# Altium schematic symbol library 稳压器件.SCHLIB: 17 symbols
Pins are listed as number, name and electrical type; pins without a type are passive.

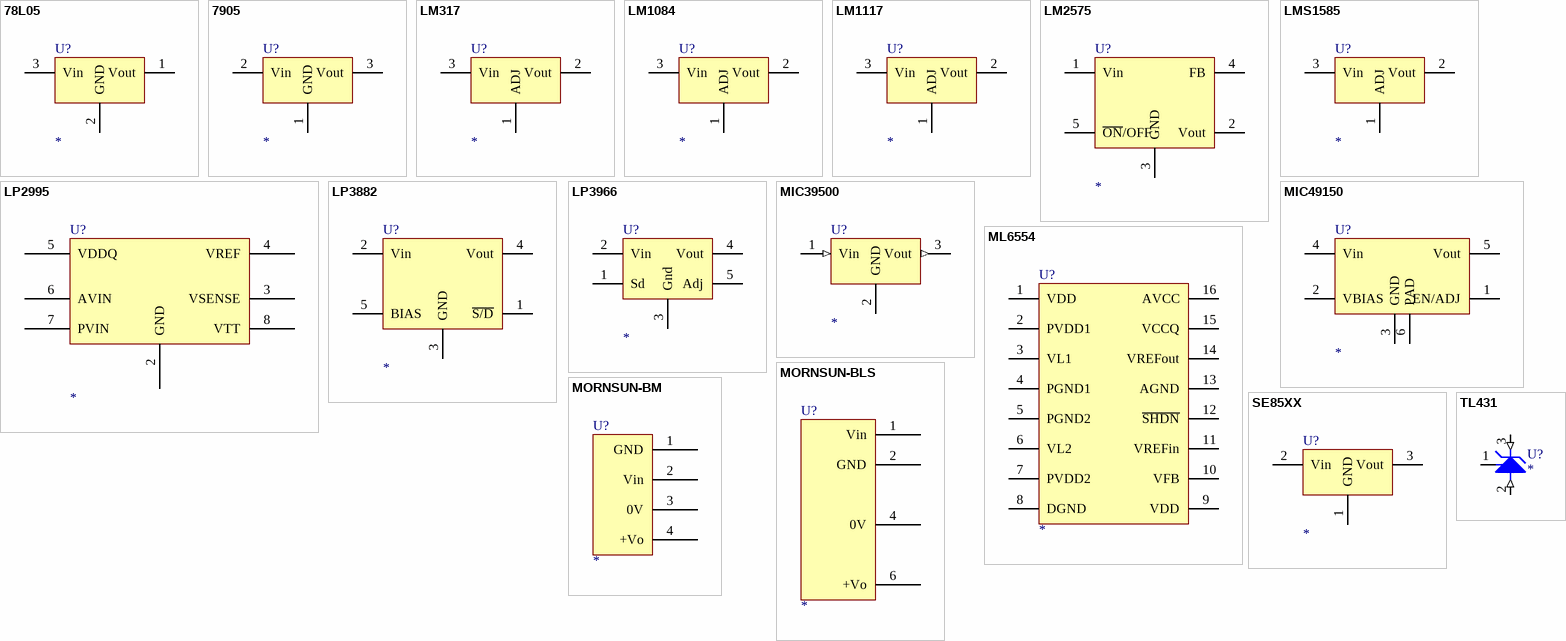
[diagram p0: symbols 78L05 to TL431]

## 78L05
designator U?
3-Terminal Positive Voltage Regulator/100mA MAX
footprint TO-92
simulation model 78L05 (SUBCKT)
pins: 1 Vout, 2 GND, 3 Vin

## 7905
designator U?
3-Terminal Positive Voltage Regulator/79XX1.5A MAX/79LXX 100mA MAX
footprint TO-220
footprint A30
footprint B30
footprint TO-92
pins: 1 GND, 2 Vin, 3 Vout

## LM317
designator U?
3-Terminal Adjustable Positive Voltage Regulator
footprint SOT-223
footprint TO-220
footprint TO-263
simulation model LM317 (SUBCKT)
pins: 1 ADJ, 2 Vout, 3 Vin

## LM1084
designator U?
3-Terminal Adjustable Positive Voltage Regulator
footprint SOT-223
footprint TO-220
footprint TO-263
simulation model LM1084 (SUBCKT)
pins: 1 ADJ, 2 Vout, 3 Vin

## LM1117
designator U?
3-Terminal Adjustable Positive Voltage Regulator
footprint SOT-223
footprint TO-220
footprint TO-263
simulation model LM1117 (SUBCKT)
pins: 1 ADJ, 2 Vout, 3 Vin

## LM2575
designator U?
footprint TO263-5
footprint TO220-5
simulation model LM2575 (SUBCKT)
pins: 1 Vin, 2 Vout, 3 GND, 4 FB, 5 ~{ON}/OFF

## LMS1585
designator U?
3-Terminal Adjustable Positive Voltage Regulator
footprint SOT-223
footprint TO-220
footprint TO-263
simulation model LMS1585 (SUBCKT)
pins: 1 ADJ, 2 Vout, 3 Vin

## LP2995
designator U?
DDR Termination Regulator
footprint SO-8
footprint LLP-16
pins: 2 GND, 3 VSENSE, 4 VREF, 5 VDDQ, 6 AVIN, 7 PVIN, 8 VTT

## LP3882
designator U?
1.5A Low Voltage LDO Regulator w/Dual Input Voltages
footprint TO263-5
footprint TO220-5
simulation model LP3882 (SUBCKT)
pins: 1 ~{S/D}, 2 Vin, 3 GND, 4 Vout, 5 BIAS

## LP3966
designator U?
Text Field1: 60; Text Field2: 30
footprint TO263-5
pins: 1 Sd, 2 Vin, 3 Gnd, 4 Vout, 5 Adj

## MIC39500
designator U?
Low-Dropout Regulator
footprint TO-263-3
footprint TO-220
footprint SOT-223
pins: 1 Vin (in), 2 GND (power), 3 Vout (out)

## MIC49150
designator U?
1.5A Low Voltage LDO Regulator w/Dual Input Voltages
footprint S-Pak
footprint Power MSOP-8
simulation model MIC49150 (SUBCKT)
pins: 1 EN/ADJ, 2 VBIAS, 3 GND, 4 Vin, 5 Vout, 6 PAD

## ML6554
designator U?
3A Bus Termination Regulator
footprint PSOP16
pins: 1 VDD, 2 PVDD1, 3 VL1, 4 PGND1, 5 PGND2, 6 VL2, 7 PVDD2, 8 DGND, 9 VDD, 10 VFB, 11 VREFin, 12 ~{SHDN}, 13 AGND, 14 VREFout, 15 VCCQ, 16 AVCC

## MORNSUN-BLS
designator U?
MORNSUN Fixed input,Isolated,Unregulated Series DC/DC
footprint MORNSUN-BLS
pins: 1 Vin, 2 GND, 4 0V, 6 +Vo

## MORNSUN-BM
designator U?
MORNSUN Fixed input,Isolated,Unregulated Series DC/DC
footprint MORNSUN-BM
pins: 1 GND, 2 Vin, 3 0V, 4 +Vo

## SE85XX
designator U?
Low Dropout LDO
footprint SOT23
footprint SOT89 (Footprint not found)
pins: 1 GND, 2 Vin, 3 Vout

## TL431
designator U?
Adjustable Precision Shunt Regulator
simulation model TL431 (SUBCKT)
pins: 1 R, 2 A (in), 3 K (in)